# Altium footprint library 3.18-传感器IC.PcbLib: 23 footprints (part 1 of 2)
Each footprint in its own frame and in the unit in brackets; x right, y up, seen from the top. Pads: shape width x height; smd on the part's side, far side on the other; paste and mask are expansions set on the pad; w line width, h text height; cw(c..) or ccw(c..) is an arc to the next point about the centre after c.
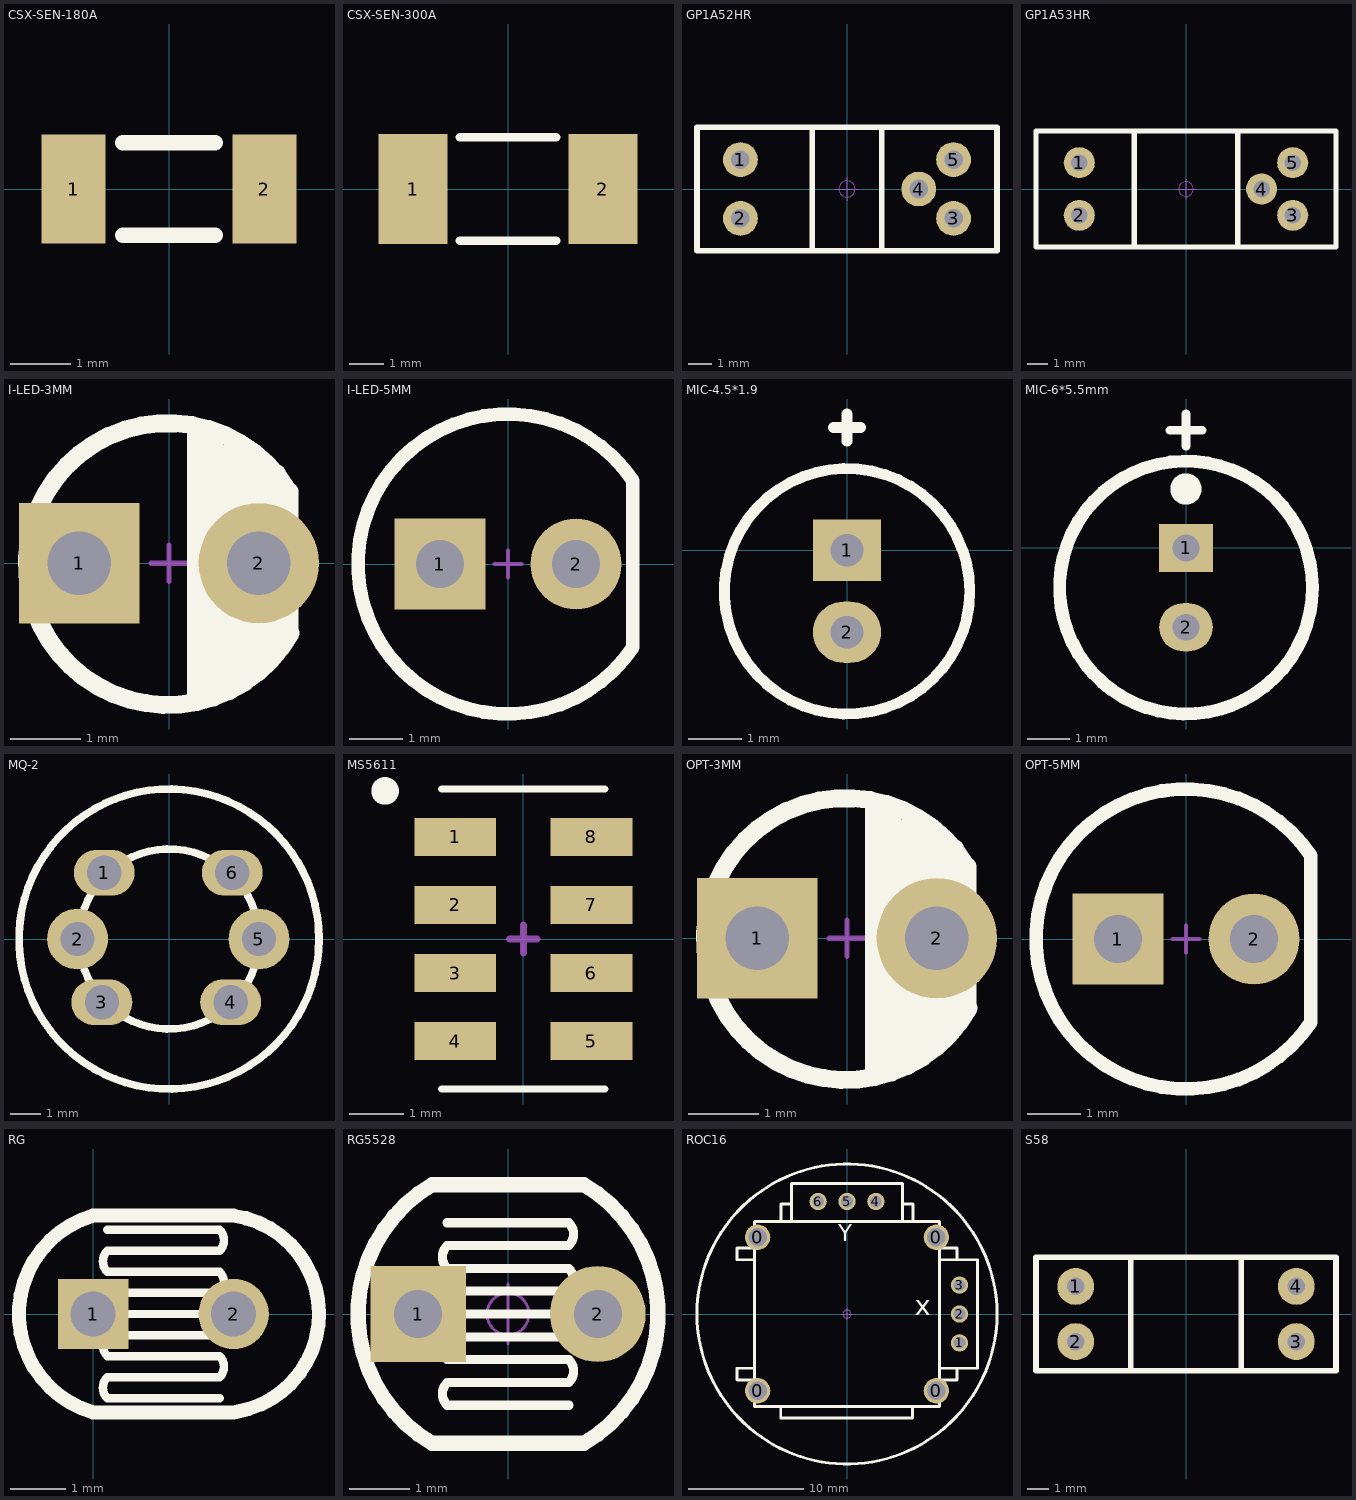
[diagram p0: the footprints below, top view; thin cyan lines are the x and y axes]

## CSX-SEN-180A [mm] "振动传感器"
height 2
pads (2):
  rect 1.05x1.8 smd: 1(-1.575,0) 2(1.575,0)
Top Overlay:
  lines w0.254: -0.762,-0.762 0.762,-0.762 ; -0.762,0.762 0.762,0.762

## CSX-SEN-300A [mm] "振动传感器"
height 3
pads (2):
  rect 2x3.2 smd: 1(-2.75,0) 2(2.75,0)
Top Overlay:
  lines w0.254: -1.4,-1.5 1.4,-1.5 ; -1.4,1.5 1.4,1.5

## GP1A52HR [mm] "长: 12.5mm,宽:5mm,高:10mm,槽宽:3mm              淘宝ID:黄晶宝石"
pads (5):
  round 1.5 hole 0.8: 1(-4.6,1.27) 2(-4.6,-1.27) 3(4.6,-1.27) 4(3.1,0) 5(4.6,1.27)
Top Overlay:
  lines w0.25: -1.5,-2.667 -1.5,2.667 ; 1.5,-2.667 1.5,2.667 ; -6.477,-2.667 -6.477,2.667 6.477,2.667 6.477,-2.667 -6.477,-2.667
Mechanical 15:
  circle w0.05: c0,0 r0.35
  lines w0.05: -0.5,0 0.5,0 ; 0,-0.5 0,0.5
3D body "GP1A52HR.STEP": height 10.05, standoff -3.15, extent -6.25,-2.5 6.25,2.5

## GP1A53HR [mm] "长: 14mm,宽:5.2mm,高:10mm,槽宽:5mm             淘宝ID:黄晶宝石"
pads (5):
  round 1.5 hole 0.8: 1(-5.15,1.27) 2(-5.15,-1.27) 3(5.15,-1.27) 4(3.65,0) 5(5.15,1.27)
Top Overlay:
  lines w0.25: -2.5,-2.667 -2.5,2.667 ; 2.5,-2.667 2.5,2.667 ; -7.239,-2.794 -7.239,2.794 7.239,2.794 7.239,-2.794 -7.239,-2.794
Mechanical 15:
  circle w0.05: c0,0 r0.35
  lines w0.05: -0.5,0 0.5,0 ; 0,-0.5 0,0.5
3D body "GP1A53HR.STEP": height 10.05, standoff -3.15, extent -7,-2.6 7,2.6

## I-LED-3MM [mm] "3mm红外发射管               淘宝ID:黄晶宝石"
height 6.35
pads (2):
  rect 1.7x1.7 hole 0.9: 1(-1.27,0)
  round 1.7 hole 0.9: 2(1.27,0)
Top Overlay:
  lines w0.254: 0.381,-1.905 0.381,1.905 ; 0.635,-1.778 0.635,1.778 ; 1.016,-1.651 1.016,1.524 ; 1.524,1.27 1.524,-1.27 1.27,-1.524 1.27,1.397 1.143,1.524 1.016,1.524 ; 1.685,1.025 ccw(c-0.016,-0.012) 1.72,-0.987 ; 1.702,-0.965 1.702,1.016 ; 0.889,1.651 0.889,-1.778 0.889,1.651 ; 0.889,1.651 1.016,1.524
Mechanical 15:
  lines w0.076: -0.254,0 0.254,0 ; 0,-0.254 0,0.254
3D body "LED 3mm-玻璃罩.ST": height 5.55, standoff 0.05, extent -1.95,-1.95 1.638,1.95
3D body "LED_3mm-W.STEP": height 2.66, standoff -3.35, extent -1.623,-0.838 1.619,0.839

## I-LED-5MM [mm] "5mm红外发射管                 淘宝ID:黄晶宝石"
height 10.16
pads (2):
  rect 1.7x1.7 hole 0.9: 1(-1.27,0)
  round 1.7 hole 0.9: 2(1.27,0)
Top Overlay:
  lines w0.254: 2.33,-1.553 cw(c0,0) 2.33,1.553 2.33,-1.553
Mechanical 15:
  lines w0.076: -0.254,0 0.254,0 ; 0,-0.254 0,0.254
3D body "LED_5mm-W.STEP": height 4.5, standoff -3.45, extent -1.998,-0.8 2.062,0.8
3D body "LED 5mm玻璃罩.ST": height 8.75, standoff 0.05, extent -2.85,-2.85 2.454,2.85

## MIC-4.5*1.9 [mil] "咪咪头                    淘宝ID:黄晶宝石"
pads (2):
  rect 50x45 hole 24: 1(0,0)
  oval 50x45 hole 24: 2(0,-60)
Top Overlay:
  circle w8: c0,-30 r90
  lines w8: -10,90 10,90 ; 0,80 0,100
3D body "MIC4.5X1.9.stp": height 75.38, standoff -110.24, extent -88.81,-118.58 88,58.58

## MIC-6*5.5mm [mil] "咪咪头              淘宝ID:黄晶宝石"
pads (2):
  rect 50x45 hole 25: 1(0,0)
  oval 50x45 hole 25: 2(0,-74)
Top Overlay:
  circle w12: c0,-37 r118
  circle w15: c0,55 r7.07
  lines w8: -15,110 15,110 ; 0,95 0,125
3D body "MIC6X5.5mm.stp": height 197.64, standoff -118.11, extent -117.78,-157.1 117.78,79.12

## MQ-2 [mil]
height 905.51
pads (6):
  oval 80x60 hole 45: 1(-85,87) 3(-88,-83) 4(81,-83) 6(83,87)
  round 80 hole 45: 2(-120,0) 5(118.11,0)
Top Overlay:
  circle w10: c0,0 r196.85
  circle w10: c0,0 r118.11
  lines w10: -99,82 -92,82

## MS5611 [mm] "气压传感芯片"
pads (8):
  rect 1.5x0.7 smd: 1(-1.25,1.875) 2(-1.25,0.625) 3(-1.25,-0.625) 4(-1.25,-1.875) 5(1.25,-1.875) 6(1.25,-0.625) 7(1.25,0.625) 8(1.25,1.875)
Top Overlay:
  circle w0.454: c-2.54,2.718 r0.025
  lines w0.127: -1.5,-2.754 1.5,-2.754 ; -1.5,2.754 1.5,2.754
Mechanical 15:
  lines w0.127: -0.254,0 0.254,0 ; 0,-0.254 0,0.254
3D body "SM5611.STEP": height -0.49, standoff -1.5, extent -1.5,-2.5 1.501,2.5

## OPT-3MM [mm] "3mm红外接收管"
height 6.35
pads (2):
  rect 1.7x1.7 hole 0.9: 1(-1.27,0)
  round 1.7 hole 0.9: 2(1.27,0)
Top Overlay:
  lines w0.254: 0.381,-1.905 0.381,1.905 ; 0.635,-1.778 0.635,1.778 ; 1.016,-1.651 1.016,1.524 ; 1.524,1.27 1.524,-1.27 1.27,-1.524 1.27,1.397 1.143,1.524 1.016,1.524 ; 1.685,1.025 ccw(c-0.016,-0.012) 1.72,-0.987 ; 1.702,-0.965 1.702,1.016 ; 0.889,1.651 0.889,-1.778 0.889,1.651 ; 0.889,1.651 1.016,1.524
Mechanical 15:
  lines w0.076: -0.254,0 0.254,0 ; 0,-0.254 0,0.254
3D body "LED 3mm-玻璃罩.STEP": height 5.55, standoff 0.05, extent -1.95,-1.95 1.638,1.95
3D body "LED_3mm-W.STEP": height 2.76, standoff -3.25, extent -1.623,-0.838 1.618,0.838

## OPT-5MM [mm] "5mm红外接收管"
height 10.16
pads (2):
  rect 1.7x1.7 hole 0.9: 1(-1.27,0)
  round 1.7 hole 0.9: 2(1.27,0)
Top Overlay:
  lines w0.254: 2.33,-1.553 cw(c0,0) 2.33,1.553 2.33,-1.553
Mechanical 15:
  lines w0.076: -0.254,0 0.254,0 ; 0,-0.254 0,0.254
3D body "LED 5mm玻璃罩.STEP": height 8.75, standoff 0.05, extent -2.85,-2.85 2.454,2.85
3D body "LED_5mm-W.STEP": height 4.7, standoff -3.25, extent -1.998,-0.8 2.062,0.8

## RG [mil] "光敏电阻                     封装库来自淘宝卖家 ID：黄晶宝石"
pads (2):
  rect 50x50 hole 32: 1(0,0)
  round 50 hole 32: 2(100,0)
Top Overlay:
  lines w6: 10,60 90,60 cw(c82.5,52.5) 90,45 10,45 ccw(c17.5,37.5) 10,30 90,30 cw(c82.5,22.5) 90,15 10,15 ccw(c17.5,7.5) 10,0 90,0 cw(c82.5,-7.5) 90,-15 10,-15 ccw(c17.5,-22.5) 10,-30 90,-30 cw(c82.5,-37.5) 90,-45 10,-45 ccw(c17.5,-52.5) 10,-60 90,-60
  lines w10: 100,-70 0,-70 cw(c20,0) 0,70 100,70 cw(c90,0) 101.62,-69.75
3D body "RG5528.STEP": height 76.8, standoff -133.83, extent -48.42,-84.64 148.43,84.65

## RG5528 [mm] "光敏电阻 脚距：3mm"
pads (2):
  rect 1.6x1.6 hole 0.8: 1(-1.5,0)
  round 1.6 hole 0.8: 2(1.5,0)
Top Overlay:
  lines w0.152: -1.016,1.524 1.016,1.524 cw(c0.826,1.333) 1.016,1.143 -1.016,1.143 ccw(c-0.826,0.953) -1.016,0.762 1.016,0.762 cw(c0.826,0.572) 1.016,0.381 -1.016,0.381 ccw(c-0.826,0.191) -1.016,0 1.016,0 cw(c0.826,-0.191) 1.016,-0.381 -1.016,-0.381 ccw(c-0.826,-0.572) -1.016,-0.762 1.016,-0.762 cw(c0.826,-0.953) 1.016,-1.143 -1.016,-1.143 ccw(c-0.826,-1.333) -1.016,-1.524 1.016,-1.524
  lines w0.254: -1.27,-2.159 cw(c0,0) -1.27,2.159 1.27,2.159 cw(c0,0) 1.27,-2.159 -1.27,-2.159
Mechanical 15:
  circle w0.05: c0,0 r0.35
  lines w0.05: -0.5,0 0.5,0 ; 0,-0.5 0,0.5
3D body "RG5528.STEP": height 1.95, standoff -3.4, extent -2.5,-2.15 2.5,2.15

## ROC16 [mm] "摇杆电位器，长16mm，宽16mm，高12.2mm                淘宝ID:黄晶宝石"
pads (10):
  round 2.2 hole 1.6: 0(-7.75,-6.65) 0(-7.75,6.65) 0(7.75,-6.65) 0(7.75,6.65)
  round 1.5 hole 1: 1(9.75,-2.5) 2(9.75,0) 3(9.75,2.5) 4(2.5,9.75) 5(0,9.75) 6(-2.5,9.75)
Top Overlay:
  circle w0.254: c0,0 r13
  lines w0.254: -8,-5.715 -9.525,-5.715 -9.525,-4.699 -8,-4.699 ; -8,4.699 -9.525,4.699 -9.525,5.715 -8,5.715 ; -5.741,-8.028 -5.741,-9.017 5.689,-9.017 5.689,-8.027 5.663,-8.053 ; -5.715,8 -5.715,9.525 -4.8,9.525 ; -4.8,8 -4.8,11.3 4.8,11.3 4.8,8 ; 4.8,9.144 4.8,8 ; 4.8,9.525 5.715,9.525 5.715,8 ; 4.826,8.026 4.8,8 ; 8,-5.715 9.525,-5.715 9.525,-4.699 ; 8,-4.699 9.525,-4.699 ; 8,4.699 9.525,4.699 ; 8,5.715 9.525,5.715 9.525,4.699 ; 9.525,-4.699 11.3,-4.699 11.301,-2.425 ; 9.525,4.699 11.303,4.699 11.302,2.324 11.301,-2.425 ; 11.301,-2.425 11.301,-2.425 ; -8,-8 8,-8 8,8 -8,8 -8,-8
  text "x" at 5.867,-0.737 h3
  text "Y" at -0.762,5.842 h2.5
Mechanical 15:
  circle w0.05: c0,0 r0.35
  lines w0.05: -0.5,0 0.5,0 ; 0,-0.5 0,0.5
3D body "ROC16-2.STEP": height 29.36, standoff -3.65, extent -12.5,-12.5 12.5,12.5

## S58 [mm] "对射型光耦           淘宝ID:黄晶宝石"
pads (4):
  round 1.7 hole 0.8: 1(-5.08,1.27) 2(-5.08,-1.27) 3(5.08,-1.27) 4(5.08,1.27)
Top Overlay:
  lines w0.254: -2.54,-2.616 -2.54,2.616 ; 2.54,-2.54 2.54,2.54 ; -6.909,-2.616 6.909,-2.616 6.909,2.616 -5.08,2.616 -6.909,2.616 -6.909,-2.616
3D body "S58.STEP": height 10, standoff -3.5, extent -6.9,-2.6 6.9,2.6